# Altium footprint library PcbLib1.PcbLib: 22 footprints (part 2 of 2)
Each footprint in its own frame and in the unit in brackets; x right, y up, seen from the top. Pads: shape width x height; smd on the part's side, far side on the other; paste and mask are expansions set on the pad; w line width, h text height; cw(c..) or ccw(c..) is an arc to the next point about the centre after c.
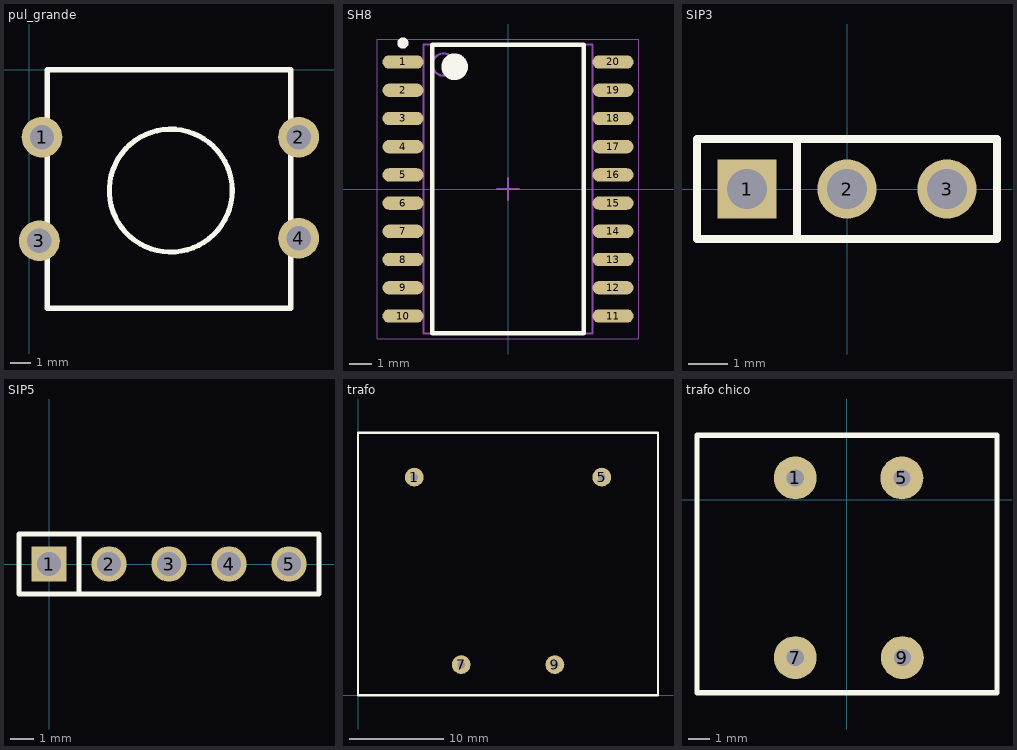
[diagram p1: the footprints below, top view; thin cyan lines are the x and y axes]

## pul_grande [mm]
pads (4):
  round 2 hole 1.2: 1(0.635,-3.302) 2(13.208,-3.302) 3(0.508,-8.382) 4(13.208,-8.255)
Top Overlay:
  circle w0.254: c6.943,-5.921 r3.011
  lines w0.254: 0.889,-11.684 12.827,-11.684 12.827,0 0.889,0 0.889,-11.684
3D body: height 7.3, standoff -3.5, extent 0.085,-11.715 13.885,0.285

## SH8 [mm] "SOP, 20-Leads, Body 12,80x7,50mm, Pitch 1,27mm, IPC Medium Density"
height 2.65
pads (20):
  oval 1.85x0.6 smd: 1(-4.725,5.715) 2(-4.725,4.445) 3(-4.725,3.175) 4(-4.725,1.905) 5(-4.725,0.635) 6(-4.725,-0.635) 7(-4.725,-1.905) 8(-4.725,-3.175) 9(-4.725,-4.445) 10(-4.725,-5.715) 11(4.725,-5.715) 12(4.725,-4.445) 13(4.725,-3.175) 14(4.725,-1.905) 15(4.725,-0.635) 16(4.725,0.635) 17(4.725,1.905) 18(4.725,3.175) 19(4.725,4.445) 20(4.725,5.715)
Top Overlay:
  circle w0.6: c-2.4,5.5 r0.3
  circle w0.25: c-4.725,6.565 r0.125
  lines w0.2: -3.4,-6.5 3.4,-6.5 3.4,6.5 -3.4,6.5 -3.4,-6.5
Mechanical 13:
  circle w0.1: c-2.9,5.6 r0.5
  lines w0.1: -3.8,-6.5 3.8,-6.5 3.8,6.5 -3.8,6.5 -3.8,-6.5
Mechanical 15:
  lines w0.05: -5.875,-6.75 5.875,-6.75 5.875,6.75 -5.875,6.75 -5.875,-6.75
  lines w0.1: -0.5,0 0.5,0 ; 0,-0.5 0,0.5
3D body: height 2.65, standoff 0.1, extent -3.8,-6.5 3.8,6.5

## SIP3 [mm]
pads (3):
  rect 1.5x1.5 hole 1.016: 1(-2.54,0)
  round 1.5 hole 1.016: 2(0,0) 3(2.54,0)
Top Overlay:
  lines w0.2: -1.27,-1.27 -1.27,1.27 ; -3.81,-1.27 -3.81,1.27 3.81,1.27 3.81,-1.27 -3.81,-1.27
3D body: height 8.38, standoff -2.54, extent -3.81,-1.295 3.81,1.245

## SIP5 [mm]
pads (5):
  rect 1.5x1.5 hole 1.016: 1(0,0)
  round 1.5 hole 1.016: 2(2.54,0) 3(5.08,0) 4(7.62,0) 5(10.16,0)
Top Overlay:
  lines w0.2: 1.27,-1.27 1.27,1.27 ; -1.27,-1.27 -1.27,1.27 11.43,1.27 11.43,-1.27 -1.27,-1.27
3D body: height 8.38, standoff -2.54, extent -1.27,-1.27 8.89,1.27
3D body: height 8.38, standoff -2.54, extent 1.27,-1.27 11.43,1.27

## trafo [mm]
pads (4):
  round 2 hole 0.8: 1(6.002,23.271) 5(26.002,23.271) 7(11.002,3.271) 9(21.002,3.271)
Top Overlay:
  lines w0.254: 0,0 0,28 32,28 32,0 0,0
3D body: height 36.58, standoff 0.58, extent 0.004,0 32.004,28

## trafo chico [mm]
pads (4):
  round 2 hole 0.8: 1(-2.413,1.016) 5(2.559,1.016) 7(-2.413,-7.366) 9(2.587,-7.366)
Top Overlay:
  lines w0.254: -7,-9 7,-9 7,3 -7,3 -7,-9
3D body: height 15.5, standoff 0.5, extent -7,-9 7,3